# Altium footprint library 623 3xx 235 321.PcbLib: 3 footprints
Each footprint in its own frame and in the unit in brackets; x right, y up, seen from the top. Pads: shape width x height; smd on the part's side, far side on the other; paste and mask are expansions set on the pad; w line width, h text height; cw(c..) or ccw(c..) is an arc to the next point about the centre after c.
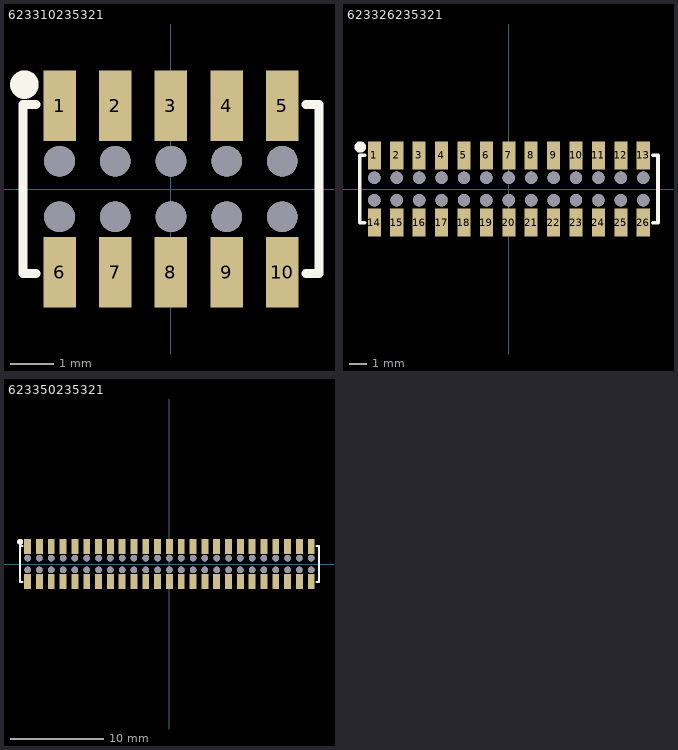
[diagram p0: the footprints below, top view; thin cyan lines are the x and y axes]

## 623310235321 [mm] "10 pins, dual row, straight, gold plating"
height 2.2
pads (20):
  rect 0.74x1.6 smd: 1(-2.54,1.9) 2(-1.27,1.9) 3(0,1.9) 4(1.27,1.9) 5(2.54,1.9) 6(-2.54,-1.9) 7(-1.27,-1.9) 8(0,-1.9) 9(1.27,-1.9) 10(2.54,-1.9)
  round 0.7 hole 0.7 unplated mask+0: ""(-2.54,-0.635) ""(-2.54,0.635) ""(-1.27,-0.635) ""(-1.27,0.635) ""(0,-0.635) ""(0,0.635) ""(1.27,-0.635) ""(1.27,0.635) ""(2.54,-0.635) ""(2.54,0.635)
Top Overlay:
  circle w0.4: c-3.34,2.38 r0.125
  lines w0.2: -3.075,-1.925 -3.375,-1.925 -3.375,1.925 -3.075,1.925 ; 3.075,-1.925 3.375,-1.925 3.375,1.925 3.075,1.925
3D body "623310235321.stp": height 2.25, standoff 0, extent -3.375,-2.2 3.375,2.2

## 623326235321 [mm] "26 pins, dual row, straight, gold plating"
height 2.2
pads (52):
  rect 0.74x1.6 smd: 1(-7.62,1.9) 2(-6.35,1.9) 3(-5.08,1.9) 4(-3.81,1.9) 5(-2.54,1.9) 6(-1.27,1.9) 7(0,1.9) 8(1.27,1.9) 9(2.54,1.9) 10(3.81,1.9) 11(5.08,1.9) 12(6.35,1.9) 13(7.62,1.9) 14(-7.62,-1.9) 15(-6.35,-1.9) 16(-5.08,-1.9) 17(-3.81,-1.9) 18(-2.54,-1.9) 19(-1.27,-1.9) 20(0,-1.9) 21(1.27,-1.9) 22(2.54,-1.9) 23(3.81,-1.9) 24(5.08,-1.9) 25(6.35,-1.9) 26(7.62,-1.9)
  round 0.7 hole 0.7 unplated mask+0: ""(-7.62,-0.635) ""(-7.62,0.635) ""(-6.35,-0.635) ""(-6.35,0.635) ""(-5.08,-0.635) ""(-5.08,0.635) ""(-3.81,-0.635) ""(-3.81,0.635) ""(-2.54,-0.635) ""(-2.54,0.635) ""(-1.27,-0.635) ""(-1.27,0.635) ""(0,-0.635) ""(0,0.635) ""(1.27,-0.635) ""(1.27,0.635) ""(2.54,-0.635) ""(2.54,0.635) ""(3.81,-0.635) ""(3.81,0.635) ""(5.08,-0.635) ""(5.08,0.635) ""(6.35,-0.635) ""(6.35,0.635) ""(7.62,-0.635) ""(7.62,0.635)
Top Overlay:
  circle w0.4: c-8.42,2.38 r0.125
  lines w0.2: -8.155,-1.925 -8.455,-1.925 -8.455,1.925 -8.155,1.925 ; 8.155,-1.925 8.455,-1.925 8.455,1.925 8.155,1.925
3D body "623326235321.stp": height 2.25, standoff 0, extent -8.455,-2.2 8.455,2.2

## 623350235321 [mm] "50 pins, dual row, straight, gold plating"
height 2.2
pads (100):
  rect 0.74x1.6 smd: 1(-15.24,1.9) 2(-13.97,1.9) 3(-12.7,1.9) 4(-11.43,1.9) 5(-10.16,1.9) 6(-8.89,1.9) 7(-7.62,1.9) 8(-6.35,1.9) 9(-5.08,1.9) 10(-3.81,1.9) 11(-2.54,1.9) 12(-1.27,1.9) 13(0,1.9) 14(1.27,1.9) 15(2.54,1.9) 16(3.81,1.9) 17(5.08,1.9) 18(6.35,1.9) 19(7.62,1.9) 20(8.89,1.9) 21(10.16,1.9) 22(11.43,1.9) 23(12.7,1.9) 24(13.97,1.9) 25(15.24,1.9) 26(-15.24,-1.9) 27(-13.97,-1.9) 28(-12.7,-1.9) 29(-11.43,-1.9) 30(-10.16,-1.9) 31(-8.89,-1.9) 32(-7.62,-1.9) 33(-6.35,-1.9) 34(-5.08,-1.9) 35(-3.81,-1.9) 36(-2.54,-1.9) 37(-1.27,-1.9) 38(0,-1.9) 39(1.27,-1.9) 40(2.54,-1.9) 41(3.81,-1.9) 42(5.08,-1.9) 43(6.35,-1.9) 44(7.62,-1.9) 45(8.89,-1.9) 46(10.16,-1.9) 47(11.43,-1.9) 48(12.7,-1.9) 49(13.97,-1.9) 50(15.24,-1.9)
  round 0.7 hole 0.7 unplated mask+0: ""(-15.24,-0.635) ""(-15.24,0.635) ""(-13.97,-0.635) ""(-13.97,0.635) ""(-12.7,-0.635) ""(-12.7,0.635) ""(-11.43,-0.635) ""(-11.43,0.635) ""(-10.16,-0.635) ""(-10.16,0.635) ""(-8.89,-0.635) ""(-8.89,0.635) ""(-7.62,-0.635) ""(-7.62,0.635) ""(-6.35,-0.635) ""(-6.35,0.635) ""(-5.08,-0.635) ""(-5.08,0.635) ""(-3.81,-0.635) ""(-3.81,0.635) ""(-2.54,-0.635) ""(-2.54,0.635) ""(-1.27,-0.635) ""(-1.27,0.635) ""(0,-0.635) ""(0,0.635) ""(1.27,-0.635) ""(1.27,0.635) ""(2.54,-0.635) ""(2.54,0.635) ""(3.81,-0.635) ""(3.81,0.635) ""(5.08,-0.635) ""(5.08,0.635) ""(6.35,-0.635) ""(6.35,0.635) ""(7.62,-0.635) ""(7.62,0.635) ""(8.89,-0.635) ""(8.89,0.635) ""(10.16,-0.635) ""(10.16,0.635) ""(11.43,-0.635) ""(11.43,0.635) ""(12.7,-0.635) ""(12.7,0.635) ""(13.97,-0.635) ""(13.97,0.635) ""(15.24,-0.635) ""(15.24,0.635)
Top Overlay:
  circle w0.4: c-16.04,2.38 r0.125
  lines w0.2: -15.775,-1.925 -16.075,-1.925 -16.075,1.925 -15.775,1.925 ; 15.775,-1.925 16.075,-1.925 16.075,1.925 15.775,1.925
3D body "623350235321.stp": height 2.25, standoff 0, extent -16.075,-2.2 16.075,2.2